# EAGLE library part PIN_3X5 (library pinhead_3row)
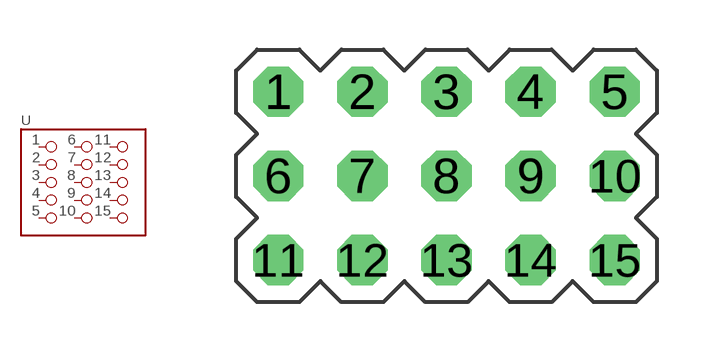
[diagram p0: symbol with the pads of PIN_3X5; footprint PIN_3X5]

Designator prefix -

## PIN_3X5  [PIN_3X5]
1  1
2  2
3  3
4  4
5  5
6  6
7  7
8  8
9  9
10  10
11  11
12  12
13  13
14  14
15  15

## Footprint PIN_3X5 (pad centres in mm)
drill 1.016 octagon: 1 1.27,-1.27; 2 3.81,-1.27; 3 6.35,-1.27; 4 8.89,-1.27; 5 11.43,-1.27; 6 1.27,-3.81; 7 3.81,-3.81; 8 6.35,-3.81; 9 8.89,-3.81; 10 11.43,-3.81; 11 1.27,-6.35; 12 3.81,-6.35; 13 6.35,-6.35; 14 8.89,-6.35; 15 11.43,-6.35